# Altium integrated library Memory.IntLib: 2 symbols
Pins are listed as number, name and electrical type; pins without a type are passive.

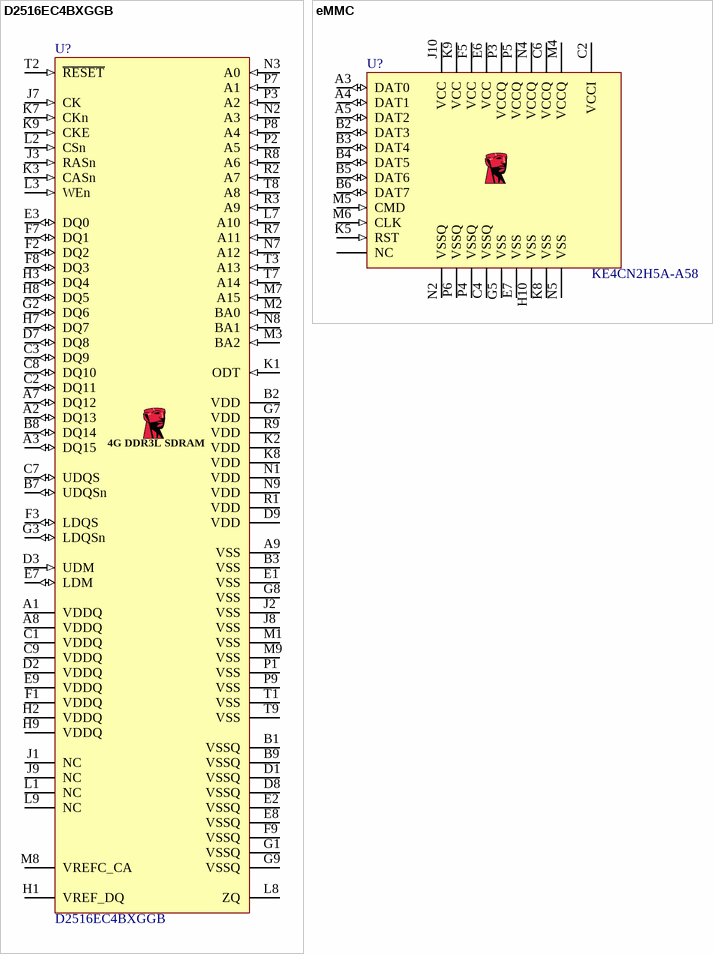
[diagram p0: symbols D2516EC4BXGGB to eMMC]

## D2516EC4BXGGB
designator U?
DRAM Chip DDR3L SDRAM 4Gbit 256Mx16 1.35V; Manuf1: Kingston; Populated: Yes; Value: D2516EC4BXGGB; Manuf1Partnumber: D2516EC4BXGGB; Code_JEDEC: *; PackageReference: FBGA96; ROHS: Yes; LifeCycle: Checked; ComponentLink1Description: Datasheet; ComponentLink1URL: http://www.datasheetspdf.com/datasheet/download.php?id=855386; Supplier 1: Arrow
footprint BGA96_T9_P8_9X14
pins: A1 VDDQ (power), A2 DQ13 (io), A3 DQ15 (io), A7 DQ12 (io), A8 VDDQ (power), A9 VSS (power), B1 VSSQ (power), B2 VDD (power), B3 VSS (power), B7 UDQSn (io), B8 DQ14 (io), B9 VSSQ (power), C1 VDDQ (power), C2 DQ11 (io), C3 DQ9 (io), C7 UDQS (io), C8 DQ10 (io), C9 VDDQ (power), D1 VSSQ (power), D2 VDDQ (power), D3 UDM (in), D7 DQ8 (io), D8 VSSQ (power), D9 VDD (power), E1 VSS (power), E2 VSSQ (power), E3 DQ0 (io), E7 LDM (io), E8 VSSQ (power), E9 VDDQ (power), F1 VDDQ (power), F2 DQ2 (io), F3 LDQS (io), F7 DQ1 (io), F8 DQ3 (io), F9 VSSQ (power), G1 VSSQ (power), G2 DQ6 (io), G3 LDQSn (io), G7 VDD (power), G8 VSS (power), G9 VSSQ (power), H1 VREF_DQ, H2 VDDQ (power), H3 DQ4 (io), H7 DQ7 (io), H8 DQ5 (io), H9 VDDQ (power), J1 NC, J2 VSS (power), J3 RASn (in), J7 CK (in), J8 VSS (power), J9 NC, K1 ODT (in), K2 VDD (power), K3 CASn (in), K7 CKn (in), K8 VDD (power), K9 CKE (in), L1 NC (power), L2 CSn (in), L3 WEn (in), L7 A10 (in), L8 ZQ, L9 NC (power), M1 VSS (power), M2 BA0 (in), M3 BA2 (in), M7 A15 (in), M8 VREFC_CA (power), M9 VSS (power), N1 VDD (power), N2 A3 (in), N3 A0 (in), N7 A12 (in), N8 BA1 (in), N9 VDD (power), P1 VSS (power), P2 A5 (in), P3 A2 (in), P7 A1 (in), P8 A4 (in), P9 VSS (power), R1 VDD (power), R2 A7 (in), R3 A9 (in), R7 A11 (in), R8 A6 (in), R9 VDD (power), T1 VSS (power), T2 ~{RESET} (in), T3 A13 (in), T7 A14 (in), T8 A8 (in), T9 VSS (power)
text: 4G DDR3L SDRAM

## eMMC
designator U?, comment KE4CN2H5A-A58
Flash Card 4G-byte 3.3V MultiMedia Card 153-Pin WFBGA; Manufacturer: Micron Technology; Manufacturer Part Number: MTFC2GMVEA-0M WT; Lead Time: 2 weeks; RoHS: CHINA ROHS: Compliant / EU ROHS: Compliant; Package Quantity: 1; EU_ROHS_PROD_EXEMPTION_BY_SUPP: N/R; ComponentLink1URL: http://components.arrow.com/partservice/dataview/altium/53710993S251949N2406?apiKey=aa438727d59eed98c4bed826d8d949c84cb5e685b92bf87346a0226bd2658797; ComponentLink1Description: http://components.arrow.com/partservice/dataview/altium/53710993S251949N2406?apiKey=aa438727d59eed98c4bed826d8d949c84cb5e685b92bf87346a0226bd2658797; Value: KE4CN2H5A-A58
footprint BGA153_P14_P5_11P5X13
pins: A3 DAT0 (io), A4 DAT1 (io), A5 DAT2 (io), B2 DAT3 (io), B3 DAT4 (io), B4 DAT5 (io), B5 DAT6 (io), B6 DAT7 (io), C2 VCCI (power), C4 VSSQ (power), C6 VCCQ (power), E6 VCC (power), E7 VSS (power), F5 VCC (power), G5 VSS (power), H10 VSS (power), J10 VCC (power), K5 RST (in), K6, N6, E5, N9, N8, N7, J12, P14, N3, P10, N1, M14, M13, M12, M11, M10, M9, M8, M7, P11, P12, P13, M3, M2, M1, L14, L13, L12, A10, A11, A12, A13, A14, B1, B7, G1, L3, L2, L1, K14, K13, K12, G2, K10, G3, G10, K7, N11, N10, B8, K3, K2, K1, J14, J13, N12, N13, N14, P1, P2, P7, P9, P8, J5, J3, J2, J1, H14, H13, H12, B9, B10, B11, B12, B13, D1, H5, D2, H3, H2, H1, G14, G13, G12, D3, D4, D12, D13, D14, C1, C3, C5, C7, C8, C9, F14, F13, F12, C10, F10, C11, C12, C13, C14, B14, A9, F3, F2, F1, E14, E13, E12, A1, E10, E9, E8, A8, A7, A6, A2, E3, E2, E1 NC, K8 VSS (power), K9 VCC (power), M4 VCCQ (power), M5 CMD (in), M6 CLK (in), N2 VSSQ (power), N4 VCCQ (power), N5 VSS (power), P3 VCCQ (power), P4 VSSQ (power), P5 VCCQ (power), P6 VSSQ (power)